# Altium footprint library ES_Pcb_x.PcbLib: 354 footprints (part 4 of 23)
Each footprint in its own frame and in the unit in brackets; x right, y up, seen from the top. Pads: shape width x height; smd on the part's side, far side on the other; paste and mask are expansions set on the pad; w line width, h text height; cw(c..) or ccw(c..) is an arc to the next point about the centre after c.
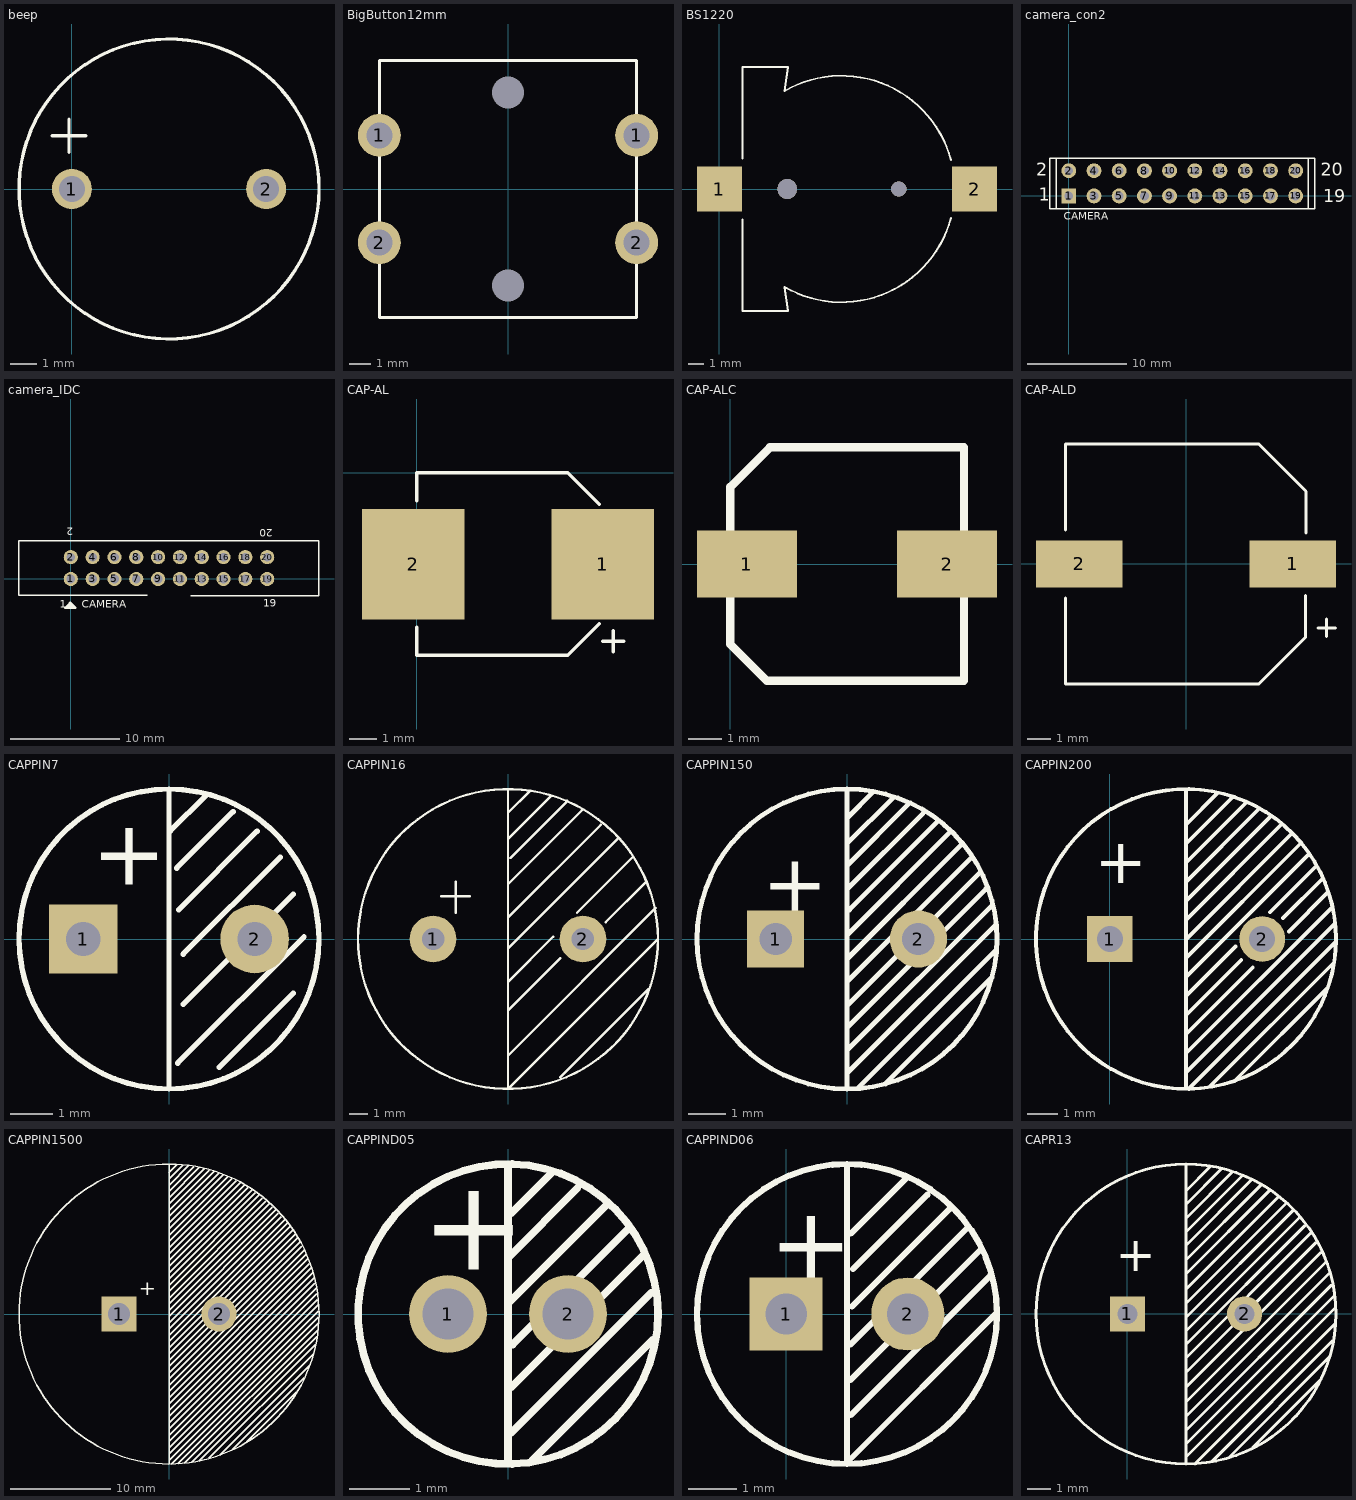
[diagram p3: the footprints below, top view; thin cyan lines are the x and y axes]

## beep [mil]
pads (2):
  round 60 hole 39.37: 1(0,0) 2(291.34,0)
Top Overlay:
  circle w5: c145.67,0 r225
  lines w5: -29.33,80 20.67,80 ; -4.33,55 -4.33,105

## BigButton12mm [mm]
pads (6):
  round 0 hole 1.5: 0(0,-4.5) 0(0,4.5)
  round 2 hole 1.2: 1(-6,2.5) 1(6,2.5) 2(-6,-2.5) 2(6,-2.5)
Top Overlay:
  lines w0.127: -6,-6 6,-6 6,6 -6,6 -6,-6

## BS1220 [mm]
pads (2):
  rect 3x3 smd: 1(0,0) 2(17,0)
via 4.5,0 diameter 1.3 hole 1.3
via 11.95,0 diameter 1 hole 1
Top Overlay:
  lines w0.127: 1.524,-2.032 1.524,-8.128 4.572,-8.128 4.333,-6.529 ccw(c8.128,0) 15.425,-1.946 ; 1.524,2.032 1.524,8.128 4.572,8.128 4.323,6.523 cw(c8.128,0) 15.425,1.946

## camera_con2 [mm] "Connector; Header; 10x2 Position"
pads (20):
  rect 1.5x1.5 hole 0.9: 1(0,0)
  round 1.5 hole 0.9: 2(0,2.54) 3(2.54,0) 4(2.54,2.54) 5(5.08,0) 6(5.08,2.54) 7(7.62,0) 8(7.62,2.54) 9(10.16,0) 10(10.16,2.54) 11(12.7,0) 12(12.7,2.54) 13(15.24,0) 14(15.24,2.54) 15(17.78,0) 16(17.78,2.54) 17(20.32,0) 18(20.32,2.54) 19(22.86,0) 20(22.86,2.54)
Top Overlay:
  lines w0.127: -1.27,-1.27 0.635,-1.27 24.13,-1.27 ; -1.27,-1.27 -1.27,3.81 ; -1.27,-1.27 -1.905,-1.27 -1.905,3.81 -1.27,3.81 ; -1.27,3.81 0.635,3.81 24.13,3.81 ; 24.13,-1.27 24.13,3.81 ; 24.13,-1.27 24.765,-1.27 24.765,3.81 24.13,3.81
  text "20" at 25.4,2.032 h1.27
  text "19" at 25.654,-0.635 h1.27
  text "1" at -3.048,-0.508 h1.27
  text "2" at -3.302,2.032 h1.27
  text "CAMERA" at -0.508,-2.413 h0.76

## camera_IDC [mm]
pads (20):
  round 1.3 hole 0.8: 1(0,0) 2(0,2) 3(2,0) 4(2,2) 5(4,0) 6(4,2) 7(6,0) 8(6,2) 9(8,0) 10(8,2) 11(10,0) 12(10,2) 13(12,0) 14(12,2) 15(14,0) 16(14,2) 17(16,0) 18(16,2) 19(18,0) 20(18,2)
Top Overlay:
  lines w0.127: 7,-1.5 -4.75,-1.5 -4.75,3.5 22.75,3.5 22.75,-1.525 11,-1.525
  lines w0.2: 0.246,-2.444 -0.301,-2.444 -0.314,-2.431 0.04,-2.431 0.136,-2.335 0.136,-2.405 -0.091,-2.632 -0.091,-2.207 -0.066,-2.182 ; -0.066,-2.182 -0.016,-2.182 0.434,-2.632 0.234,-2.632 -0.516,-2.632 -0.066,-2.182
  text "20" at 18.527,4.578 h0.7
  text "19" at 17.638,-2.534 h0.7
  text "2" at 0.239,4.705 h0.7
  text "1" at -1.031,-2.661 h0.7
  text "CAMERA" at 1.001,-2.661 h0.7

## CAP-AL [mm]
pads (2):
  rect 3.7x4 smd: 1(6.731,-3.302) 2(-0.127,-3.302)
Top Overlay:
  lines w0.127: 0,-5.588 0,-6.6 5.465,-6.6 6.6,-5.465 ; 0,-1.016 0,0 5.461,0 6.6,-1.139 ; 6.731,-6.096 7.493,-6.096 ; 7.112,-6.477 7.112,-5.715

## CAP-ALC [mm]
pads (2):
  rect 3x2 smd: 1(0.5,0) 2(6.5,0)
Top Overlay:
  lines w0.254: 7.01,-3.5 5.563,-3.5 2.286,-3.5 1.087,-3.5 0,-2.413 0,-1.214 0,0 0,1.143 0,2.311 1.189,3.5 2.357,3.5 5.766,3.5 7.01,3.5 ; 7.01,-3.48 7.01,0 7.01,3.454

## CAP-ALD [mm]
pads (2):
  rect 3.7x2 smd: 1(4.572,0) 2(-4.572,0)
Top Overlay:
  lines w0.127: -5.156,-1.468 -5.156,-5.147 3.103,-5.147 5.122,-3.128 5.122,-1.35 ; -5.152,1.457 -5.152,5.14 0.309,5.14 3.103,5.14 5.135,3.108 5.135,1.33 ; 5.643,-2.734 6.405,-2.734 ; 6.024,-3.115 6.024,-2.353

## CAPPIN7 [mm]
pads (2):
  rect 1.6x1.6 hole 0.8: 1(-2,0)
  round 1.6 hole 0.8: 2(2,0)
Top Overlay:
  circle w0.127: c0,0 r3.5
  lines w0.127: 0,-3.454 0,3.454 ; 0.025,2.515 0.864,3.353 ; 0.178,1.651 1.499,2.972 ; 0.203,-2.896 3.15,0.051 ; 0.229,0.686 2.057,2.515 ; 0.33,-1.524 2.896,1.041 ; 0.33,-0.356 2.591,1.905 ; 1.168,-2.997 2.896,-1.27
  text "+" at -1.803,1.27 h1.52

## CAPPIN16 [mm]
pads (2):
  round 2.5 hole 1.2: 1(-4,0) 2(4,0)
Top Overlay:
  circle w0.127: c0,0 r8
  lines w0.127: -3.556,2.286 -2.032,2.286 ; -2.794,1.397 -2.794,3.048 ; 0,-8.001 0,8.001 ; 0,-8 8,0 ; 0,-6.223 7.874,1.651 ; 0,-3.81 2.794,-1.016 ; 0,-2.286 2.413,0.127 ; 0,-0.508 5.842,5.334 ; 0,1.143 4.953,6.096 ; 0,2.921 3.937,6.858 ; 0,5.334 2.286,7.62 ; 0,6.731 1.143,7.874 ; 0.127,4.318 3.175,7.366 ; 2.794,-7.366 7.493,-2.667 ; 3.683,1.397 6.604,4.318 ; 5.207,0.889 7.366,3.048

## CAPPIN150 [mil]
pads (2):
  rect 60x60 hole 34: 1(-75,0)
  round 60 hole 34: 2(75,0)
Top Overlay:
  circle w5: c0,0 r157.48
  lines w5: 0,-157 0,157 ; 0,-141 156,15 ; 0,-117 152,35 ; 0,-93 146,53 ; 0,-70 139.5,69.5 ; 0,-45 130.5,85.5 ; 0,-21 120,99 ; 0,4 108,112 ; 0,52 80,132 ; 0,77 65,142 ; 0,127 27.5,154.5 ; 0.5,100.5 48,148 ; 2.5,30.5 96,124 ; 11,-157 157,-11 ; 40,-152 151.5,-40.5
  text "+" at -89,29 h60

## CAPPIN200 [mil]
pads (2):
  rect 60x60 hole 34: 1(0,0)
  round 60 hole 34: 2(200,0)
Top Overlay:
  circle w5: c100,0 r196.85
  lines w5: 100,-175 295.5,20.5 ; 100,-150 291.5,41.5 ; 100,-125 187.5,-37.5 ; 100,-100 172.5,-27.5 ; 100,-75 165,-10 ; 100,-50 261.5,111.5 ; 100,-25 250,125 ; 100,-0.5 239.25,138.75 ; 100,25 225.5,150.5 ; 100,50 211.5,161.5 ; 100,75 195.5,170.5 ; 100,100 179.5,179.5 ; 100,125 161,186 ; 100,150 141.5,191.5 ; 100,195 100,-196 104,-196 296.85,-3.15 296.85,0 ; 131,-194 294.5,-30.5 ; 164,-186 285.5,-64.5 ; 210,35 271,96 ; 227.5,27.5 279.5,79.5 ; 235,10 286.5,61.5
  text "+" at -20,73 h60

## CAPPIN1500 [mm]
pads (2):
  rect 3.5x3.5 hole 2.2: 1(-5,0)
  round 3.5 hole 2.2: 2(5,0)
Top Overlay:
  circle w0.127: c0,0 r15
  lines w0.127: 0,-15 0,15 ; 0,-14.625 14.9,0.275 ; 0,-14 14.962,0.962 ; 0,-13.375 14.825,1.45 ; 0,-12.75 14.8,2.05 ; 0,-12.125 14.713,2.588 ; 0,-11.5 14.6,3.1 ; 0,-10.875 14.5,3.625 ; 0,-10.25 14.375,4.125 ; 0,-9.625 14.225,4.6 ; 0,-9 14.025,5.025 ; 0,-8.375 13.9,5.525 ; 0,-7.75 13.688,5.938 ; 0,-7.125 13.525,6.4 ; 0,-6.5 13.287,6.787 ; 0,-5.875 13.062,7.187 ; 0,-5.25 12.875,7.625 ; 0,-4.625 12.625,8 ; 0,-4 12.412,8.413 ; 0,-3.375 12.075,8.7 ; 0,-2.75 11.837,9.088 ; 0,-2.125 11.575,9.45 ; 0,-1.5 11.25,9.75 ; 0,-0.875 10.943,10.068 ; 0,-0.25 10.667,10.418 ; 0,0.375 10.317,10.692 ; 0,1 10.03,11.03 ; 0,1.6 9.693,11.292 ; 0,2.875 9.03,11.905 ; 0,3.5 8.642,12.143 ; 0,4.125 8.305,12.43 ; 0,4.75 7.88,12.63 ; 0,5.375 7.517,12.892 ; 0,6 7.105,13.105 ; 0,6.625 6.717,13.343 ; 0,7.25 6.28,13.53 ; 0,7.875 5.855,13.73 ; 0,8.5 5.405,13.905 ; 0,9.125 4.968,14.093 ; 0,9.75 4.505,14.255 ; 0,10.375 4.005,14.38 ; 0,11 3.53,14.53 ; 0,11.625 3.03,14.655 ; 0,12.25 2.467,14.717 ; 0,12.875 1.98,14.855 ; 0,13.5 1.397,14.897 ; 0,14.13 0.825,14.955 ; 0.01,2.25 9.347,11.588 ; 0.25,-15 14.925,-0.325 ; 0.875,-14.975 14.925,-0.925 ; 1.55,-14.925 14.863,-1.612 ; 2.25,-14.825 14.788,-2.287 ; 3,-14.7 14.638,-3.062 ; 3.975,-14.45 14.413,-4.012 ; 5.075,-14.125 14.088,-5.112 ; 6.35,-13.575 13.525,-6.4 ; 7.775,-12.8 12.738,-7.838
  text "+" at -3.048,1.854 h1.52

## CAPPIND05 [mm]
pads (2):
  round 1.3 hole 0.85: 1(-1,0) 2(1,0)
Top Overlay:
  circle w0.127: c0,0 r2.5
  lines w0.127: 0,-2.464 0,2.489 ; 0.025,0.203 1.651,1.829 ; 0.025,0.965 1.156,2.095 ; 0.051,-1.981 2.388,0.356 ; 0.051,-1.219 2.235,0.965 ; 0.051,1.676 0.711,2.337 ; 0.076,-0.508 2.019,1.435 ; 0.406,-2.438 2.413,-0.432
  text "+" at -1.448,0.737 h1.52

## CAPPIND06 [mil]
pads (2):
  rect 60x60 hole 34: 1(0,0)
  round 60 hole 34: 2(100,0)
Top Overlay:
  circle w5: c50,0 r123.23
  lines w5: 50,122 50,-122 172.61,0.61 ; 53,-83 167.5,31.5 ; 53,-54 160.5,53.5 ; 53,-25 149,71 ; 53,66 99.5,112.5 ; 54,6 134.5,86.5 ; 55,37 116,98
  text "+" at -14,29 h60

## CAPR13 [mil]
pads (2):
  rect 60x60 hole 34: 1(0,0)
  round 60 hole 34: 2(200,0)
Top Overlay:
  circle w5: c100,0 r255.91
  lines w5: 100,-255.91 100,255.91 ; 100,-244 353.5,9.5 ; 100,-222 352.5,30.5 ; 100,-199 348,49 ; 100,-175 343,68 ; 100,-150 338,88 ; 100,-125 330,105 ; 100,-100 321.5,121.5 ; 100,-75 313,138 ; 100,-52 302.5,150.5 ; 100,-29 293,164 ; 100,-6 282,176 ; 100,18 270.5,188.5 ; 100,42 257.5,199.5 ; 100,68 243,211 ; 100,92 228.5,220.5 ; 100,117 211.5,228.5 ; 100,140 195.5,235.5 ; 100,163 179.5,242.5 ; 100,187 161,248 ; 100,210 141.5,251.5 ; 115,-256 353.5,-17.5 ; 144,-252 350.5,-45.5 ; 174,-244 344.5,-73.5 ; 214,-228 330,-112
  text "+" at -20,73 h60